# Altium footprint library XuanSieu.PcbLib: 2 footprints
Each footprint in its own frame and in the unit in brackets; x right, y up, seen from the top. Pads: shape width x height; smd on the part's side, far side on the other; paste and mask are expansions set on the pad; w line width, h text height; cw(c..) or ccw(c..) is an arc to the next point about the centre after c.
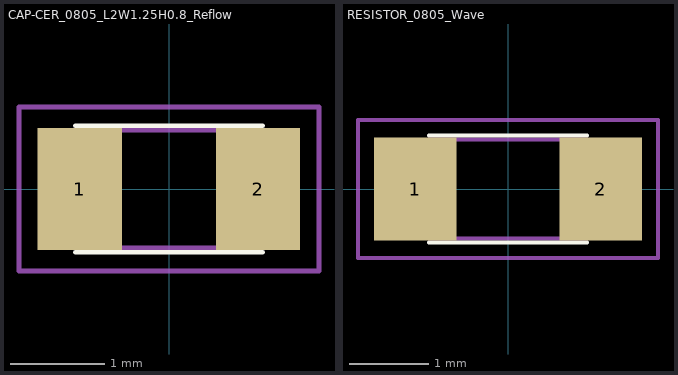
[diagram p0: the footprints below, top view; thin cyan lines are the x and y axes]

## CAP-CER_0805_L2W1.25H0.8_Reflow [mm] "Ceramic Capacitors, body 2x1.25mm"
height 0.9
pads (2):
  rect 0.9x1.3 smd: 1(-0.95,0) 2(0.95,0)
Top Overlay:
  lines w0.05: -1,-0.676 1,-0.676 ; -1,0.676 1,0.676
Mechanical 15:
  lines w0.05: -1,-0.625 -1,0.625 1,0.625 1,-0.625 -1,-0.625
Mechanical 29:
  lines w0.05: -1.6,-0.875 1.6,-0.875 1.6,0.875 -1.6,0.875 -1.6,-0.875
  text "'.Designator'" at -0.102,-0.04 h0.6
3D body "CAPC2012X08N.step": height 0.8, standoff 0, extent -1,-0.625 1,0.625

## RESISTOR_0805_Wave [mm] "Fixed Thick Film, body 2.00 x 1.25 mm"
height 0.5
pads (2):
  rect 1.05x1.3 smd: 1(-1.175,0) 2(1.175,0)
Top Overlay:
  lines w0.05: -1,-0.676 1,-0.676 ; -1,0.676 1,0.676
Mechanical 15:
  lines w0.05: -1,-0.625 -1,0.625 1,0.625 1,-0.625 -1,-0.625
Mechanical 29:
  lines w0.05: -1.9,-0.875 -1.9,0.875 1.9,0.875 1.9,-0.875 -1.9,-0.875
  text "'.Designator'" at -0.254,-0.142 h0.6
3D body "WRIS-RSKS_0805.stp": height 0.53, standoff 0.03, extent -1,-0.625 1,0.625